# Altium footprint library SamacSys.PcbLib: 8 footprints
Each footprint in its own frame and in the unit in brackets; x right, y up, seen from the top. Pads: shape width x height; smd on the part's side, far side on the other; paste and mask are expansions set on the pad; w line width, h text height; cw(c..) or ccw(c..) is an arc to the next point about the centre after c.
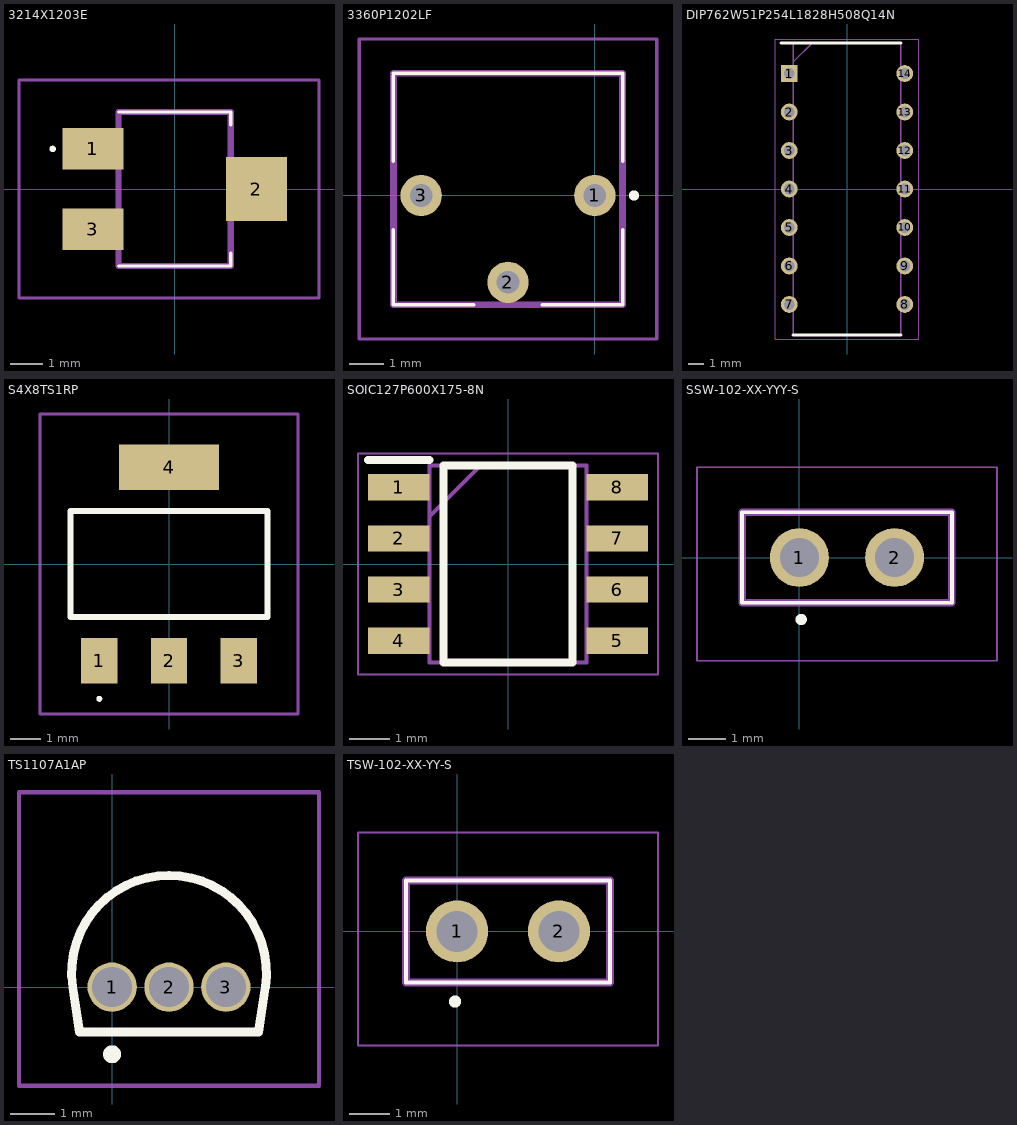
[diagram p0: the footprints below, top view; thin cyan lines are the x and y axes]

## 3214X1203E [mm]
pads (3):
  rect 1.9x1.3 smd: 1(-2.55,1.25) 3(-2.55,-1.25)
  rect 1.9x2 smd: 2(2.55,0)
Top Overlay:
  lines w0.1: -1.75,-2.4 1.75,-2.4 1.75,-2 ; -1.75,2.4 1.75,2.4 1.75,2 ; -3.8,1.2 cw(c-3.8,1.25) -3.8,1.3 cw(c-3.8,1.25) -3.8,1.2
Mechanical 13:
  lines w0.2: -1.75,-2.4 -1.75,2.4 1.75,2.4 1.75,-2.4 -1.75,-2.4
Mechanical 15:
  lines w0.1: -4.85,-3.4 -4.85,3.4 4.5,3.4 4.5,-3.4 -4.85,-3.4
3D body "3214X-1-203E.stp": height 5.32, standoff 0.03, extent -3.011,-2.428 2.673,2.398

## 3360P1202LF [mm]
pads (3):
  round 1.21 hole 0.66: 1(0,0) 2(-2.54,-2.54) 3(-5.08,0)
Top Overlay:
  lines w0.1: -5.895,-3.2 -3.54,-3.2 -5.895,-3.2 ; -5.895,-3.2 -5.895,-1 -5.895,-3.2 ; 0.815,-3.2 -1.54,-3.2 0.815,-3.2 ; 0.815,-3.2 0.815,-1 0.815,-3.2 ; 0.815,3.58 0.815,1 0.815,3.58 ; 0.815,3.58 -5.895,3.58 0.815,3.58 ; -5.895,1 -5.895,3.5 -5.895,1
  lines w0.2: 1.1,0 cw(c1.15,0) 1.2,0 ; 1.1,0 ccw(c1.15,0) 1.2,0 ; 1.1,0 cw(c1.15,0) 1.2,0
Mechanical 13:
  lines w0.2: -5.895,-3.2 0.815,-3.2 0.815,3.58 -5.895,3.58 -5.895,-3.2
Mechanical 15:
  lines w0.1: -6.895,-4.2 1.815,-4.2 1.815,4.58 -6.895,4.58 -6.895,-4.2
3D body "3360P-1-202LF.stp": height 18.52, standoff -5, extent -5.895,-3.2 0.815,3.58

## DIP762W51P254L1828H508Q14N [mm]
pads (14):
  rect 1.11x1.11 hole 0.71: 1(-3.81,7.62)
  round 1.11 hole 0.71: 2(-3.81,5.08) 3(-3.81,2.54) 4(-3.81,0) 5(-3.81,-2.54) 6(-3.81,-5.08) 7(-3.81,-7.62) 8(3.81,-7.62) 9(3.81,-5.08) 10(3.81,-2.54) 11(3.81,0) 12(3.81,2.54) 13(3.81,5.08) 14(3.81,7.62)
Top Overlay:
  lines w0.2: -4.365,9.65 3.555,9.65 ; -3.555,-9.65 3.555,-9.65
Mechanical 13:
  lines w0.1: -3.555,8.38 -2.285,9.65 ; -3.555,-9.65 -3.555,9.65 3.555,9.65 3.555,-9.65 -3.555,-9.65
Mechanical 15:
  lines w0.05: -4.74,-9.9 -4.74,9.9 4.74,9.9 4.74,-9.9 -4.74,-9.9
3D body "ALD1105PBL.stp": height 5.08, standoff -3.5, extent -3.938,-9.142 3.938,9.142

## S4X8TS1RP [mm]
pads (4):
  rect 1.2x1.5 smd: 1(-2.3,-3.2) 2(0,-3.2) 3(2.3,-3.2)
  rect 3.3x1.5 smd: 4(0,3.2)
Top Overlay:
  lines w0.1: -2.3,-4.5 ccw(c-2.3,-4.45) -2.3,-4.4 ccw(c-2.3,-4.45) -2.3,-4.5
  lines w0.2: -3.25,-1.75 -3.25,1.75 3.25,1.75 3.25,-1.75 -3.25,-1.75
Mechanical 13:
  lines w0.1: -3.25,-1.75 -3.25,1.75 3.25,1.75 3.25,-1.75 -3.25,-1.75
Mechanical 15:
  lines w0.1: -4.25,-4.95 -4.25,4.95 4.25,4.95 4.25,-4.95 -4.25,-4.95

## SOIC127P600X175-8N [mm]
pads (8):
  rect 1.525x0.65 smd: 1(-2.712,1.905) 2(-2.712,0.635) 3(-2.712,-0.635) 4(-2.712,-1.905) 5(2.712,-1.905) 6(2.712,-0.635) 7(2.712,0.635) 8(2.712,1.905)
Top Overlay:
  lines w0.2: -3.475,2.58 -1.95,2.58 ; -1.6,-2.45 1.6,-2.45 1.6,2.45 -1.6,2.45 -1.6,-2.45
Mechanical 13:
  lines w0.1: -1.95,1.18 -0.68,2.45 ; -1.95,-2.45 1.95,-2.45 1.95,2.45 -1.95,2.45 -1.95,-2.45
Mechanical 15:
  lines w0.05: -3.725,-2.75 3.725,-2.75 3.725,2.75 -3.725,2.75 -3.725,-2.75
3D body "NE555DR.stp": height 1.75, standoff 0, extent -3,-2.45 3,2.45

## SSW-102-XX-YYY-S [mm]
pads (2):
  round 1.57 hole 1.04: 1(0,0) 2(2.54,0)
Top Overlay:
  circle w0.2: c0.05,-1.65 r0.05
  lines w0.1: -1.525,-1.205 -1.525,1.205 4.065,1.205 4.065,-1.205 -1.525,-1.205
Mechanical 13:
  lines w0.2: -1.525,-1.205 -1.525,1.205 4.065,1.205 4.065,-1.205 -1.525,-1.205
Mechanical 15:
  lines w0.05: -2.725,-2.75 -2.725,2.405 5.265,2.405 5.265,-2.75 -2.725,-2.75
3D body "SSW-102-01-G-S.stp": height 8.51, standoff -2.64, extent -1.525,-1.205 4.065,1.205

## TS1107A1AP [mm]
pads (3):
  round 1.1 hole 0.89: 1(0,0) 2(1.27,0) 3(2.54,0)
Top Overlay:
  lines w0.2: -0.88,-0.003 cw(c1.271,0.323) 3.421,0.001 ; -0.88,0 -0.73,-1 3.27,-1 3.42,0 ; -0.1,-1.5 cw(c0,-1.5) 0.1,-1.5 cw(c0,-1.5) -0.1,-1.5
Mechanical 13:
  lines w0.1: -0.88,-0.003 cw(c1.271,0.323) 3.421,0.001 ; -0.88,0 -0.73,-1 3.27,-1 3.42,0
Mechanical 15:
  lines w0.1: -2.08,-2.2 -2.08,4.35 4.62,4.35 4.62,-2.2 -2.08,-2.2
3D body "P0118MA_2AL3.stp": height 4.36, standoff -12.74, extent -2.35,-1.08 1.351,3.62

## TSW-102-XX-YY-S [mm]
pads (2):
  round 1.55 hole 1.02: 1(0,0) 2(2.54,0)
Top Overlay:
  circle w0.2: c-0.05,-1.75 r0.05
  lines w0.1: -1.27,-1.27 -1.27,1.27 3.81,1.27 3.81,-1.27 -1.27,-1.27
Mechanical 13:
  lines w0.2: -1.27,-1.27 -1.27,1.27 3.81,1.27 3.81,-1.27 -1.27,-1.27
Mechanical 15:
  lines w0.05: -2.47,-2.85 -2.47,2.47 5.01,2.47 5.01,-2.85 -2.47,-2.85
3D body "TSW-102-06-G-S.stp": height 9.16, standoff -3.03, extent -1.387,-1.28 3.82,1.26